# EAGLE library part ATTINY20 (library tablet)
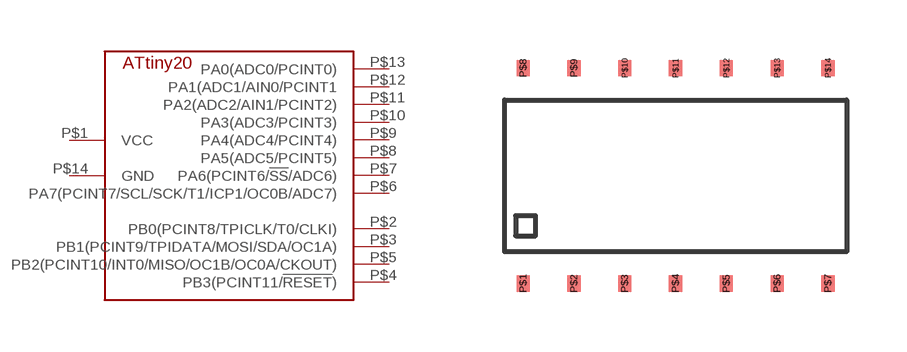
[diagram p2: symbol with the pads of SOIC14; footprint SOIC14]

Designator prefix -

## ATTINY20  [SOIC14]
P$1  VCC
P$2  PB0(PCINT8/TPICLK/T0/CLKI)
P$3  PB1(PCINT9/TPIDATA/MOSI/SDA/OC1A)
P$4  PB3(PCINT11/!RESET!)
P$5  PB2(PCINT10/INT0/MISO/OC1B/OC0A/CKOUT)
P$6  PA7(PCINT7/SCL/SCK/T1/ICP1/OC0B/ADC7)
P$7  PA6(PCINT6/!SS!/ADC6)
P$8  PA5(ADC5/PCINT5)
P$9  PA4(ADC4/PCINT4)
P$10  PA3(ADC3/PCINT3)
P$11  PA2(ADC2/AIN1/PCINT2)
P$12  PA1(ADC1/AIN0/PCINT1
P$13  PA0(ADC0/PCINT0)
P$14  GND

## Footprint SOIC14 (pad centres in mm)
smd 0.33 x 0.41: P$1 -3.81,-2.695; P$2 -2.54,-2.695; P$3 -1.27,-2.695; P$4 0,-2.695; P$5 1.27,-2.695; P$6 2.54,-2.695; P$7 3.81,-2.695; P$8 -3.81,2.695; P$9 -2.54,2.695; P$10 -1.27,2.695; P$11 0,2.695; P$12 1.27,2.695; P$13 2.54,2.695; P$14 3.81,2.695